# Altium footprint library rpi_shield.PcbLib: 42 footprints (part 3 of 3)
Each footprint in its own frame and in the unit in brackets; x right, y up, seen from the top. Pads: shape width x height; smd on the part's side, far side on the other; paste and mask are expansions set on the pad; w line width, h text height; cw(c..) or ccw(c..) is an arc to the next point about the centre after c.
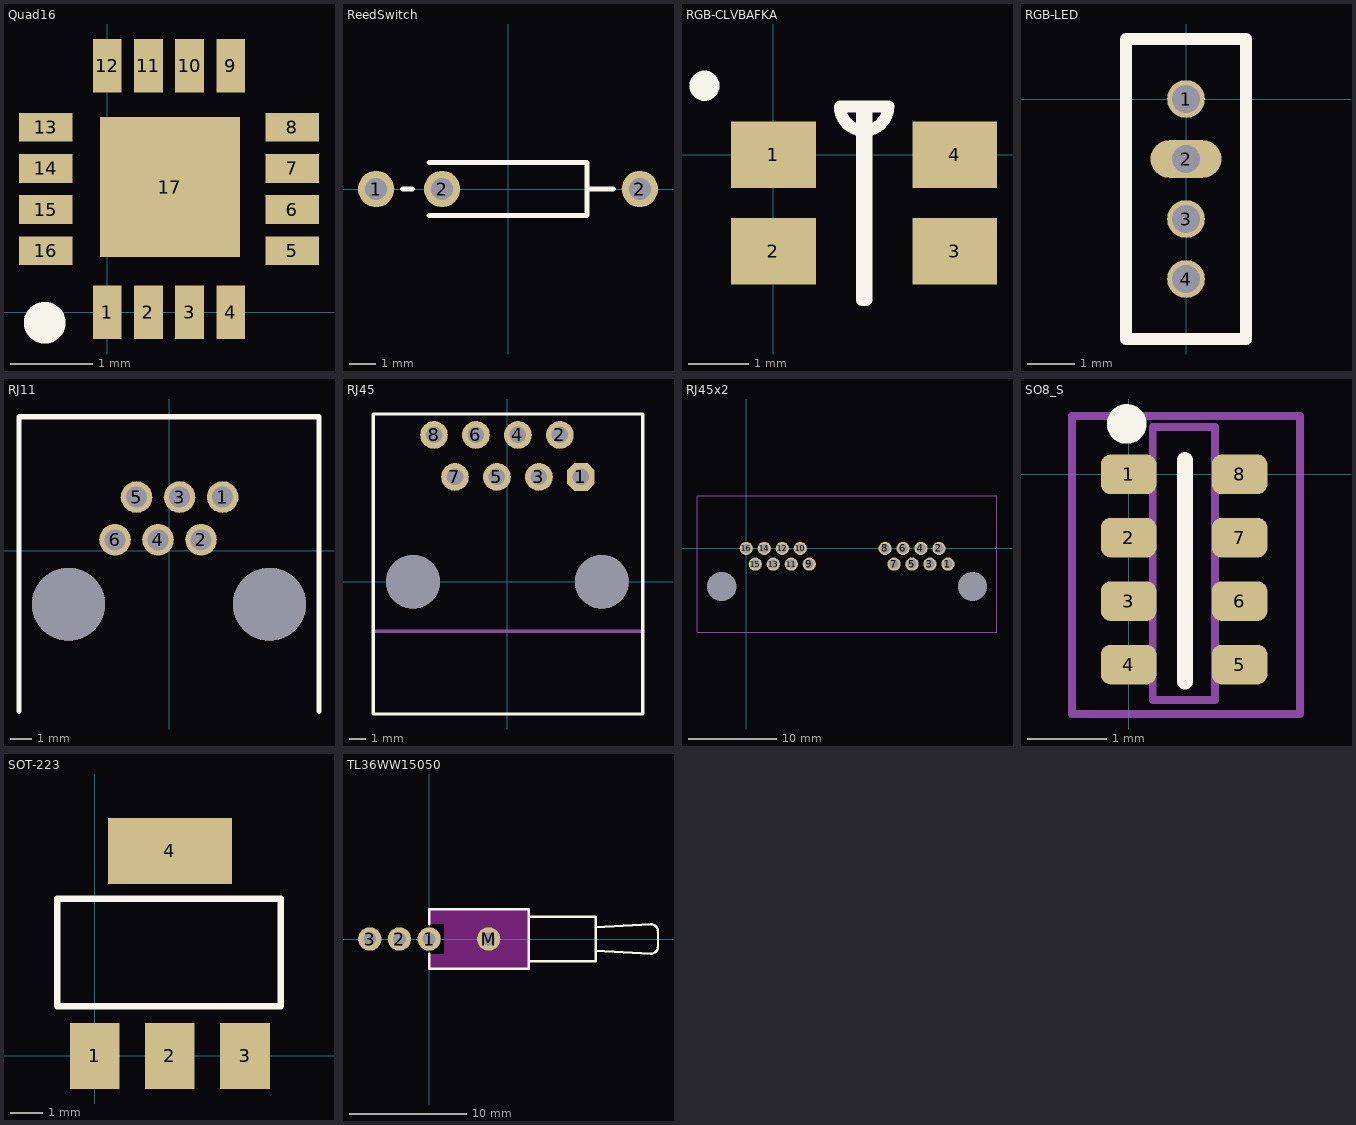
[diagram p2: the footprints below, top view; thin cyan lines are the x and y axes]

## Quad16 [mm]
pads (17):
  rect 0.35x0.65 smd: 1(0,0) 2(0.5,0) 3(1,0) 4(1.5,0) 9(1.5,3) 10(1,3) 11(0.5,3) 12(0,3)
  rect 0.65x0.35 smd: 5(2.25,0.75) 6(2.25,1.25) 7(2.25,1.75) 8(2.25,2.25) 13(-0.75,2.25) 14(-0.75,1.75) 15(-0.75,1.25) 16(-0.75,0.75)
  rect 1.7x1.7 smd: 17(0.762,1.524)
Top Overlay:
  circle w0.254: c-0.762,-0.127 r0.127
3D body: height 0.5, standoff 0, extent -0.889,0 2.286,3.048

## ReedSwitch [mm] "Axial Device, Thru-Hole; 2 Leads; 0.4 in Pin Spacing"
height 2.032
pads (3):
  round 1.4 hole 0.85: 1(-5.08,0) 2(-2.54,0) 2(5.08,0)
Top Overlay:
  lines w0.2: -4.064,0 -3.683,0 ; -3.048,-1.016 3.048,-1.016 3.048,1.016 -3.048,1.016 ; 3.048,0 4.064,0

## RGB-CLVBAFKA [mm]
pads (4):
  rect 1.4x1.1 smd: 1(0,0) 2(0,-1.6) 3(3,-1.6) 4(3,0)
Top Overlay:
  circle w0.25: c-1.141,1.143 r0.125
  lines w0.2: 1.1,0.8 ccw(c1.5,0.8) 1.9,0.8 1.465,0.8 1.465,-2.4 1.535,-2.4 1.535,0.8 1.1,0.8

## RGB-LED [mm]
pads (4):
  round 0.8 hole 0.6: 1(0,0) 3(0,-2.54) 4(0,-3.81)
  oval 1.5x0.8 hole 0.6: 2(0,-1.27)
Top Overlay:
  lines w0.254: -1.27,-5.08 1.27,-5.08 1.27,0.635 1.27,1.27 -1.27,1.27 -1.27,0.635 -1.27,-5.08

## RJ11 [mm]
pads (6):
  round 1.5 hole 1: 1(2.54,2.54) 2(1.52,0.51) 3(0.5,2.54) 4(-0.52,0.51) 5(-1.54,2.54) 6(-2.56,0.51)
via 4.76,-2.54 diameter 3.45 hole 3.45
via -4.76,-2.54 diameter 3.45 hole 3.45
Top Overlay:
  lines w0.254: -7.112,-7.62 -7.112,6.35 7.112,6.35 7.112,-7.62

## RJ45 [mil] "609-5081-ND"
pads (10):
  oct 66x66 hole 39.37: 1(175.04,250)
  round 66 hole 39.37: 2(125.04,350) 3(75.04,250) 4(25.04,350) 5(-24.96,250) 6(-74.96,350) 7(-124.96,250) 8(-174.96,350)
  round 127.95 hole 127.95 unplated: ""(-225.04,0) ""(225.04,0)
Top Overlay:
  lines w8: -320.08,-315 322.83,-315 322.83,-118.11 322.83,400 -320.08,400 -320.08,-118.11 -320.08,-315
Mechanical 1:
  lines w8: -320.08,-118.11 322.83,-118.11
3D body "User Library-rj45 coudée 8 pts.step": height 451.97, standoff -135.83, extent -295,-314.33 303.43,394.33

## RJ45x2 [mm]
pads (18):
  round 0 hole 3.3: 0(-2.79,-4.32) 1(25.66,-4.32)
  round 1.5 hole 1: 1(22.89,-1.78) 2(21.87,0) 3(20.85,-1.78) 4(19.83,0) 5(18.81,-1.78) 6(17.79,0) 7(16.77,-1.78) 8(15.75,0) 9(7.14,-1.78) 10(6.12,0) 11(5.1,-1.78) 12(4.08,0) 13(3.06,-1.78) 14(2.04,0) 15(1.02,-1.78) 16(0,0)
Mechanical 1:
  lines w0.1: -5.597,-9.499 28.457,-9.499 28.457,5.969 -5.597,5.969 -5.597,-9.499
3D body "SW3dPS-442480085.STEP": height 14.36, standoff -3.3, extent -5.597,-9.499 28.457,5.969

## SO8_S [mm] "SOIC, 8-Leads, Body 4.9x3.9mm, Pitch 1.27mm, IPC Low Density"
height 1.75
pads (8):
  rrect50% 0.7x0.5 smd: 1(0,0) 2(0,-0.8) 3(0,-1.6) 4(0,-2.4) 5(1.4,-2.4) 6(1.4,-1.6) 7(1.4,-0.8) 8(1.4,0)
Top Overlay:
  circle w0.25: c-0.023,0.635 r0.125
  lines w0.2: 0.711,-2.616 0.711,0.178
Mechanical 13:
  lines w0.1: 0.305,-2.845 1.092,-2.845 1.092,0.595 0.305,0.595 0.305,-2.845
Mechanical 15:
  lines w0.1: -0.711,-3.023 2.159,-3.023 2.159,0.737 -0.711,0.737 -0.711,-3.023
3D body: height 0.53, standoff 0, extent -0.05,-2.875 1.425,0.575

## SOT-223 [mil]
pads (4):
  rect 60x80 smd: 1(0,0) 2(91,0) 3(182,0)
  rect 150x80 smd: 4(91,248)
Top Overlay:
  lines w8: -45,60 225,60 225,190 -45,190 -45,60
3D body "SW3DPS-SOT-223-DEFAULT.STEP": height 62.99, standoff -3.15, extent -37.95,-7.01 217.95,267.01

## TL36WW15050 [mm] "Switch; 4 Leads"
pads (4):
  round 2 hole 1.1: 1(0,0) 2(-2.54,0) 3(-5.08,0) M(5.08,0)
Top Layer keep-out:
  region: 1.27,2.54 1.27,-2.54 8.509,-2.54 8.509,2.54
  region: 0,2.54 0,1.27 1.27,1.27 1.27,2.54
  region: 0,-1.27 0,-2.54 1.27,-2.54 1.27,-1.27
Top Overlay:
  lines w0.2: 0,-1.27 0,-2.54 8.509,-2.54 8.509,2.54 0,2.54 0,1.27 ; 8.509,-1.905 14.224,-1.905 14.224,1.905 8.509,1.905 ; 14.224,-1.016 18.923,-1.27 ccw(c18.923,-0.635) 19.558,-0.635 19.558,0.635 ccw(c18.923,0.635) 18.923,1.27 14.224,1.016